# Altium schematic symbol library DF11-10DP-2DS.Schlib: 1 symbol
Pins are listed as number, name and electrical type; pins without a type are passive.

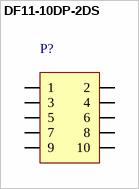
[diagram p0: symbol DF11-10DP-2DS]

## DF11-10DP-2DS
designator P?
10 Pin Right Hirose PCB Header
pins: 1, 2, 3, 4, 5, 6, 7, 8, 9, 10